# EAGLE library part ZXMP6A17E6TA (library robotter_ic)
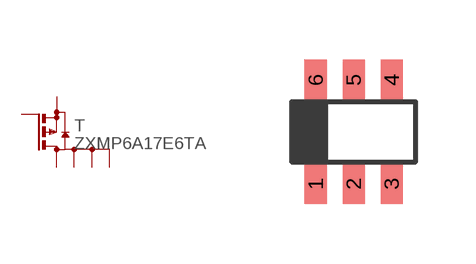
[diagram p26: symbol with the pads of SOT26; footprint SOT26]

Designator prefix T

## ZXMP6A17E6TA (FN: 1843775)  [SOT26]
1  D  pas
2  D  pas
3  G  pas
4  S  pas
5  D  pas
6  D  pas

## Footprint SOT26 (pad centres in mm)
smd 0.55 x 1: 1 -0.95,-1.3; 2 0,-1.3; 3 0.95,-1.3; 4 0.95,1.3; 5 0,1.3; 6 -0.95,1.3